# EAGLE library part AP1509 (library unicorn_v2)
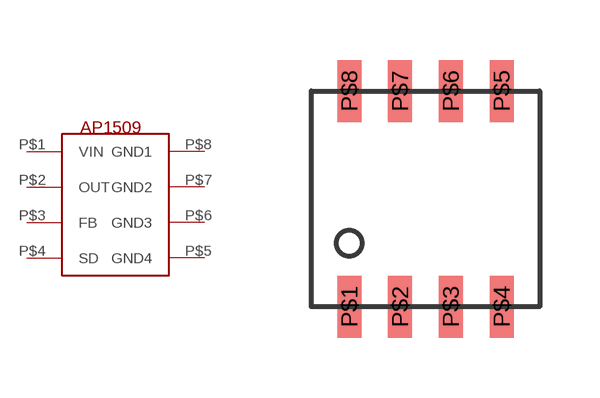
[diagram p2: symbol with the pads of SOP-8L; footprint SOP-8L]

Designator prefix -

## AP1509  [SOP-8L]
P$1  VIN
P$2  OUT
P$3  FB
P$4  SD
P$5  GND4
P$6  GND3
P$7  GND2
P$8  GND1

## Footprint SOP-8L (pad centres in mm)
smd 0.6 x 1.55: P$1 -1.905,-2.54; P$2 -0.635,-2.54; P$3 0.635,-2.54; P$4 1.905,-2.54; P$5 1.905,2.86; P$6 0.635,2.86; P$7 -0.635,2.86; P$8 -1.905,2.86